# EAGLE library part LM57 (library template_board)
Board mounted temp sensor (no longer in use for the battery monitor) Datasheet: http://www.ti.com/lit/ds/symlink/lm57-q1.pdf
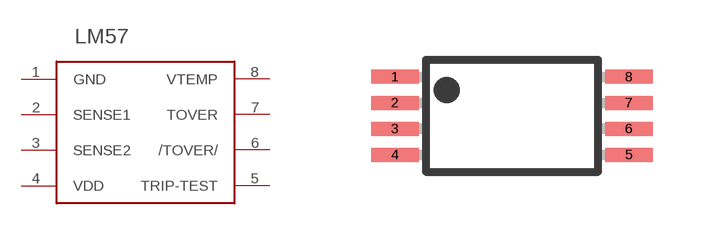
[diagram p0: symbol with the pads of TSSOP-8; footprint TSSOP-8]

Designator prefix -

## LM57  [TSSOP-8]
1  GND
2  SENSE1
3  SENSE2
4  VDD
5  TRIP-TEST
6  /TOVER/
7  TOVER
8  VTEMP

## Footprint TSSOP-8 (pad centres in mm)
smd 1.2 x 0.35: 1 -4.175,1.725; 2 -4.175,1.075; 3 -4.175,0.425; 4 -4.175,-0.225; 5 1.675,-0.225; 6 1.675,0.425; 7 1.675,1.075; 8 1.675,1.725